# Altium integrated library Type-c.IntLib: 1 symbol
Pins are listed as number, name and electrical type; pins without a type are passive.

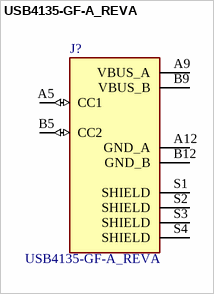
[diagram p0: symbol USB4135-GF-A_REVA]

## USB4135-GF-A_REVA
designator J?
Type C Receptacle, Horizontal, SMT, For Power Charging Only; MF: Global Connector Technology; SnapEDA_Link: https://www.snapeda.com/parts/USB4135-GF-A/Global+Connector+Technology/view-part/?ref=snap; Check_prices: https://www.snapeda.com/parts/USB4135-GF-A/Global+Connector+Technology/view-part/?ref=eda; Price: None; MP: USB4135-GF-A; Value: *; Purchase-URL: https://pricing.snapeda.com/search/part/USB4135-GF-A/?ref=eda; Availability: In Stock; Package: None
footprint GCT_USB4135-GF-A_REVA
pins: A5 CC1 (io), A9 VBUS_A (power), A12 GND_A (power), B5 CC2 (io), B9 VBUS_B (power), B12 GND_B (power), S1 SHIELD, S2 SHIELD, S3 SHIELD, S4 SHIELD